# Altium integrated library 3313J-1-503E.IntLib: 1 symbol
Pins are listed as number, name and electrical type; pins without a type are passive.

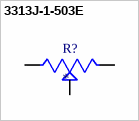
[diagram p0: symbol 3313J-1-503E]

## 3313J-1-503E
designator R?
50 kOhms 0.125W, 1/8W J Lead Surface Mount Trimmer Potentiometer Cermet 1.0 Turn Top Adjustment; MP: 3313J-1-503E; MF: Bourns; SnapEDA_Link: https://www.snapeda.com/parts/3313J-1-503E/Bourns/view-part/?ref=snap; Package: SMD-3 Bourns; Check_prices: https://www.snapeda.com/parts/3313J-1-503E/Bourns/view-part/?ref=eda; Purchase-URL: https://pricing.snapeda.com/search/part/3313J-1-503E/?ref=eda; Price: None; Value: *; Availability: In Stock
footprint TRIM_3313J-1-503E
pins: 1 CCW, 2 WIPER, 3 CW